# Altium integrated library RC2010FK-0739KL.IntLib: 1 symbol
Pins are listed as number, name and electrical type; pins without a type are passive.

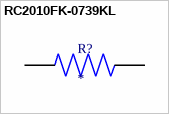
[diagram p0: symbol RC2010FK-0739KL]

## RC2010FK-0739KL
designator R?
39 kOhms Â±1% 0.75W, 3/4W Chip Resistor 2010 (5025 Metric) Moisture Resistant Thick Film; MF: Yageo; MP: RC2010FK-0739KL; SnapEDA_Link: https://www.snapeda.com/parts/RC2010FK-0739KL/Yageo/view-part/?ref=snap; Package: 5025 Yageo; Value: *; Check_prices: https://www.snapeda.com/parts/RC2010FK-0739KL/Yageo/view-part/?ref=eda
footprint RESC5025X65N
pins: 1, 2